# EAGLE library part ATSAMD11D14A-MUT (library IoTMakers)
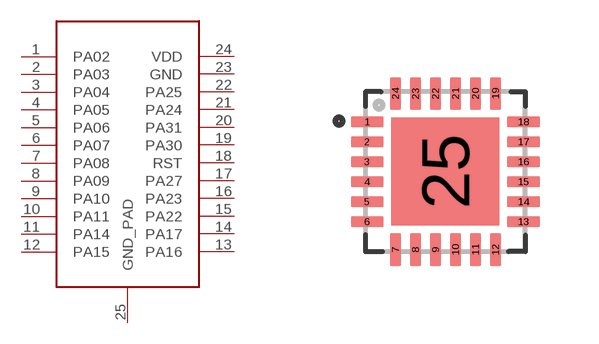
[diagram p10: symbol with the pads of QFN50P400X400X90-25N; footprint QFN50P400X400X90-25N]

Designator prefix -

## ATSAMD11D14A-MUT  [QFN50P400X400X90-25N]
1  PA02
2  PA03
3  PA04
4  PA05
5  PA06
6  PA07
7  PA08
8  PA09
9  PA10
10  PA11
11  PA14
12  PA15
13  PA16
14  PA17
15  PA22
16  PA23
17  PA27
18  RST
19  PA30
20  PA31
21  PA24
22  PA25
23  GND
24  VDD
25  GND_PAD

## Footprint QFN50P400X400X90-25N (pad centres in mm)
smd 0.81 x 0.27: 1 -1.955,1.25; 2 -1.955,0.75; 3 -1.955,0.25; 4 -1.955,-0.25; 5 -1.955,-0.75; 6 -1.955,-1.25; 13 1.955,-1.25; 14 1.955,-0.75; 15 1.955,-0.25; 16 1.955,0.25; 17 1.955,0.75; 18 1.955,1.25
smd 0.27 x 0.81: 7 -1.25,-1.955; 8 -0.75,-1.955; 9 -0.25,-1.955; 10 0.25,-1.955; 11 0.75,-1.955; 12 1.25,-1.955; 19 1.25,1.955; 20 0.75,1.955; 21 0.25,1.955; 22 -0.25,1.955; 23 -0.75,1.955; 24 -1.25,1.955
smd 2.7 x 2.7: 25 0,0